# EAGLE library part FTDI-CABLE-3V3 (library rgb_cube)
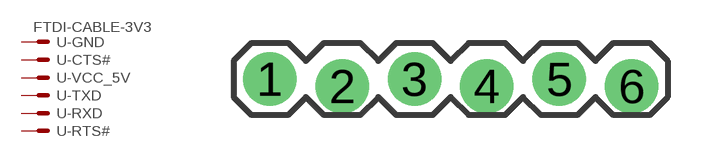
[diagram p36: symbol with the pads of HEADER_1X06-SIP_LOCK; footprint HEADER_1X06-SIP_LOCK]

Designator prefix -; gates -GND=KV -CTS#=K -VCC_5V=K -TXD=K -RXD=K -RTS#=K

## FTDI-CABLE-3V3  [HEADER_1X06-SIP_LOCK]
1  -GND:S  pas
2  -CTS#:S  pas
3  -VCC_5V:S  pas
4  -TXD:S  pas
5  -RXD:S  pas
6  -RTS#:S  pas

## Footprint HEADER_1X06-SIP_LOCK (pad centres in mm)
This footprint was designed to help hold the alignment of a through-hole component (i.e. 6-pin header) while soldering it into place. You may notice that each hole has been shifted either up or down by 0.005 of an inch from it's more standard position (which is a perfectly straight line). This slight alteration caused the pins (the squares in the middle) to touch the edges of the holes. Because they are alternating, it causes a "brace" to hold the component in place. 0.005 has proven to be the perfect amount of "off-center" position when using our standard breakaway headers. Although looks a little odd when you look at the bare footprint, once you have a header in there, the alteration is very hard to notice. Also, if you push a header all the way into place, it is covered up entirely on the bottom side. This idea of altering the position of holes to aid alignment will be further integrated into the Sparkfun Library for other footprints. It can help hold any component with 3 or more connection pins.
drill 1.016 pad 1.88 round: 1 0,0; 2 2.54,-0.254; 3 5.08,0; 4 7.62,-0.254; 5 10.16,0; 6 12.7,-0.254